# Altium integrated library Big_Library_Diode_Rectifier.IntLib: 1 symbol
Pins are listed as number, name and electrical type; pins without a type are passive.

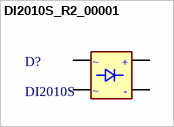
[diagram p0: symbol DI2010S_R2_00001]

## DI2010S_R2_00001
designator D?, comment DI2010S
DIODE BRIDGE 2A 1000V SDIP SMD G.PASSIVATED PANJIT; Voltage: 1000V; Current: 2A; Package: 4-SDIP; ComponentLink1Description: Link; ComponentLink1URL: https://ozdisan.com/power-semiconductors/diodes-diode-modules-and-rectifiers/bridge-diodes/DI2010SR200001/349670
pins: 1 +, 2 -, 3 ~, 4 ~